# EAGLE library part DPOT1 (library rezzonics)
3310H 9mm dual gang pot Datasheet <http://www.bourns.com/docs/Product-Datasheets/3310.pdf>
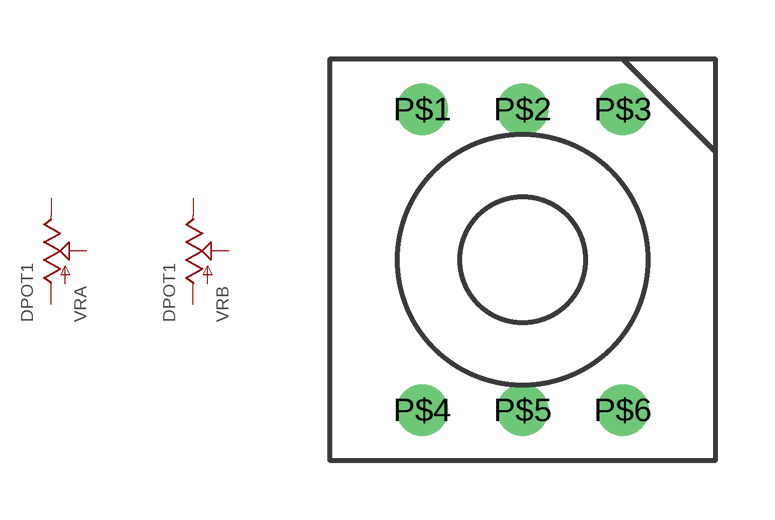
[diagram p27: symbol with the pads of 3310H; footprint 3310H]

Designator prefix VR; gates A=POT-1 B=POT-1

## DPOT1  [3310H]
P$1  A:A  pas
P$2  A:S  pas
P$3  A:E  pas
P$4  B:A  pas
P$5  B:S  pas
P$6  B:E  pas

## Footprint 3310H (pad centres in mm)
3310Y 9 mm Square Sealed Panel Control Datasheet <http://www.bourns.com/docs/Product-Datasheets/3310.pdf>
drill 0.8: P$1 -2.54,3.81; P$2 0,3.81; P$3 2.54,3.81; P$4 -2.54,-3.81; P$5 0,-3.81; P$6 2.54,-3.81